# Altium schematic symbol library 74LVC1G11GW-Q100H.Schlib: 1 symbol
Pins are listed as number, name and electrical type; pins without a type are passive.

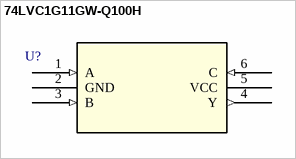
[diagram p0: symbol 74LVC1G11GW-Q100H]

## 74LVC1G11GW-Q100H
designator U?
3-input AND Gate
pins: 1 A (in), 2 GND (power), 3 B (in), 4 Y (out), 5 VCC (power), 6 C (in)